# EAGLE library part PAM2306AYPKE (library IC)
IC REG BUCK 1.8V/3.3V DL 12WDFN (2X500MA Manufacturer's datasheet <https://www.diodes.com/assets/Datasheets/PAM2306.pdf>
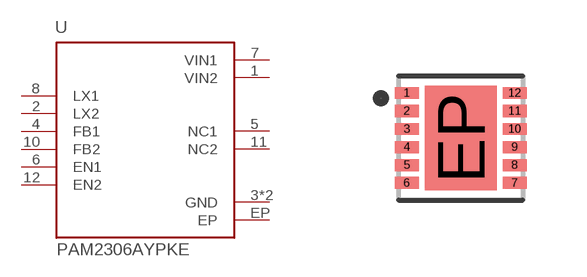
[diagram p48: symbol with the pads of DFN12-3X3; footprint DFN12-3X3]

Designator prefix U

## PAM2306AYPKE (CREATED_BY: PCBLayout.com; DIGIKEY_PARTNO: PAM2306AYPKEDIDKR-ND; MANUFACTURER: Diodes Incorporated; MPN: PAM2306AYPKE; PACKAGE: DFN12_3x3)  [DFN12-3X3]
1  VIN2  pwr
2  LX2  in
3  GND  pwr
4  FB1  in
5  NC1  nc
6  EN1  in
7  VIN1  pwr
8  LX1  in
9  GND  pwr
10  FB2  in
11  NC2  nc
12  EN2  in
EP  EP  pwr

## Footprint DFN12-3X3 (pad centres in mm)
DE/UE Package 12-Lead Plastic DFN (4mm × 3mm) Source: http://cds.linear.com/docs/Datasheet/1763ff.pdf
smd 0.6 x 0.3: 1 -1.35,1.125; 2 -1.35,0.675; 3 -1.35,0.225; 4 -1.35,-0.225; 5 -1.35,-0.675; 6 -1.35,-1.125; 7 1.35,-1.125; 8 1.35,-0.675; 9 1.35,-0.225; 10 1.35,0.225; 11 1.35,0.675; 12 1.35,1.125
smd 1.8 x 2.6: EP 0,0